# Altium footprint library BeagleCore_BCM1.PcbLib: 1 footprints
Each footprint in its own frame and in the unit in brackets; x right, y up, seen from the top. Pads: shape width x height; smd on the part's side, far side on the other; paste and mask are expansions set on the pad; w line width, h text height; cw(c..) or ccw(c..) is an arc to the next point about the centre after c.
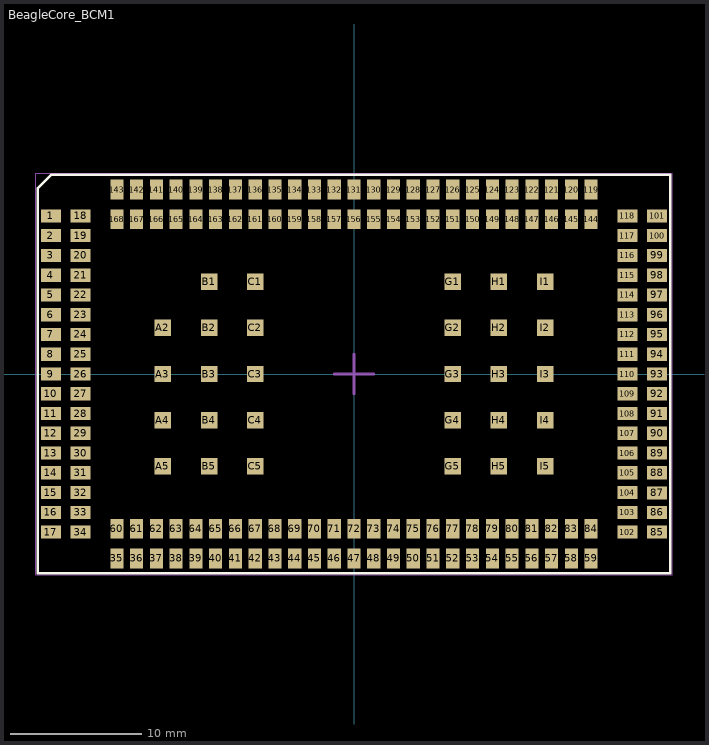
[diagram p0: the footprint, top view; thin cyan lines are the x and y axes]

## BeagleCore_BCM1 [mm] "BeagleCore SOM LGA footprint"
pads (197):
  rect 1.5x1 smd: 1(-23,12) 2(-23,10.5) 3(-23,9) 4(-23,7.5) 5(-23,6) 6(-23,4.5) 7(-23,3) 8(-23,1.5) 9(-23,0) 10(-23,-1.5) 11(-23,-3) 12(-23,-4.5) 13(-23,-6) 14(-23,-7.5) 15(-23,-9) 16(-23,-10.5) 17(-23,-12) 18(-20.75,12) 19(-20.75,10.5) 20(-20.75,9) 21(-20.75,7.5) 22(-20.75,6) 23(-20.75,4.5) 24(-20.75,3) 25(-20.75,1.5) 26(-20.75,0) 27(-20.75,-1.5) 28(-20.75,-3) 29(-20.75,-4.5) 30(-20.75,-6) 31(-20.75,-7.5) 32(-20.75,-9) 33(-20.75,-10.5) 34(-20.75,-12) 85(23,-12) 86(23,-10.5) 87(23,-9.025) 88(23,-7.5) 89(23,-6) 90(23,-4.5) 91(23,-3) 92(23,-1.5) 93(23,0) 94(23,1.5) 95(23,3) 96(23,4.5) 97(23,6) 98(23,7.5) 99(23,9) 100(23,10.5) 101(23,12) 102(20.75,-12) 103(20.75,-10.5) 104(20.75,-9) 105(20.75,-7.5) 106(20.75,-6) 107(20.75,-4.5) 108(20.75,-3) 109(20.75,-1.5) 110(20.75,0) 111(20.75,1.5) 112(20.75,3) 113(20.75,4.5) 114(20.75,6) 115(20.75,7.5) 116(20.75,9) 117(20.75,10.5) 118(20.75,12)
  rect 1x1.5 smd: 35(-18,-14) 36(-16.5,-14) 37(-15,-14) 38(-13.5,-14) 39(-12,-14) 40(-10.5,-14) 41(-9,-14) 42(-7.5,-14) 43(-6,-14) 44(-4.5,-14) 45(-3,-14) 46(-1.5,-14) 47(0,-14) 48(1.5,-14) 49(3,-14) 50(4.5,-14) 51(6,-14) 52(7.5,-14) 53(9,-14) 54(10.5,-14) 55(12,-14) 56(13.5,-14) 57(15,-14) 58(16.5,-14) 59(18,-14) 60(-18,-11.75) 61(-16.5,-11.75) 62(-15,-11.75) 63(-13.5,-11.75) 64(-12,-11.75) 65(-10.5,-11.75) 66(-9,-11.75) 67(-7.5,-11.75) 68(-6,-11.75) 69(-4.5,-11.75) 70(-3,-11.75) 71(-1.5,-11.75) 72(0,-11.75) 73(1.5,-11.75) 74(3,-11.75) 75(4.5,-11.75) 76(6,-11.75) 77(7.5,-11.75) 78(9,-11.75) 79(10.5,-11.75) 80(12,-11.75) 81(13.5,-11.75) 82(15,-11.75) 83(16.5,-11.75) 84(18,-11.75) 119(18,14) 120(16.5,14) 121(15,14) 122(13.5,14) 123(12,14) 124(10.5,14) 125(9,14) 126(7.5,14) 127(6,14) 128(4.5,14) 129(3,14) 130(1.5,14) 131(0,14) 132(-1.5,14) 133(-3,14) 134(-4.5,14) 135(-6,14) 136(-7.5,14) 137(-9,14) 138(-10.5,14) 139(-12,14) 140(-13.5,14) 141(-15,14) 142(-16.5,14) 143(-18,14) 144(18,11.75) 145(16.5,11.75) 146(15,11.75) 147(13.5,11.75) 148(12,11.75) 149(10.5,11.75) 150(9,11.75) 151(7.5,11.75) 152(6,11.75) 153(4.5,11.75) 154(3,11.75) 155(1.5,11.75) 156(0,11.75) 157(-1.5,11.75) 158(-3,11.75) 159(-4.5,11.75) 160(-6,11.75) 161(-7.5,11.75) 162(-9,11.75) 163(-10.5,11.75) 164(-12,11.75) 165(-13.5,11.75) 166(-15,11.75) 167(-16.5,11.75) 168(-18,11.75)
  rect 1.25x1.25 smd: A2(-14.5,3.5) A3(-14.5,0) A4(-14.5,-3.5) A5(-14.5,-7) B1(-11,7) B2(-11,3.5) B3(-11,0) B4(-11,-3.5) B5(-11,-7) C1(-7.5,7) C2(-7.5,3.5) C3(-7.5,0) C4(-7.5,-3.5) C5(-7.5,-7) G1(7.5,7) G2(7.5,3.5) G3(7.5,0) G4(7.5,-3.5) G5(7.5,-7) H1(11,7) H2(11,3.5) H3(11,0) H4(11,-3.5) H5(11,-7) I1(14.5,7) I2(14.5,3.5) I3(14.5,0) I4(14.5,-3.5) I5(14.5,-7)
Top Overlay:
  lines w0.2: -24,-15.11 24,-15.11 24,15.11 -22.99,15.11 -24,14.1 -24,-15.11
Mechanical 15:
  lines w0.05: -24.15,-15.25 -24.15,15.25 24.15,15.25 24.15,-15.25 -24.15,-15.25
  lines w0.2: -1.5,0 0,0 ; 0,-1.5 0,0 ; 0,1.5 0,0 ; 1.5,0 0,0
3D body "CM01_BeagleCORE.step": height 3.23, standoff 0.01, extent -24,-15.1 24,15.1